# Altium schematic symbol library ptitteam_sch.SchLib: 24 symbols
Pins are listed as number, name and electrical type; pins without a type are passive.

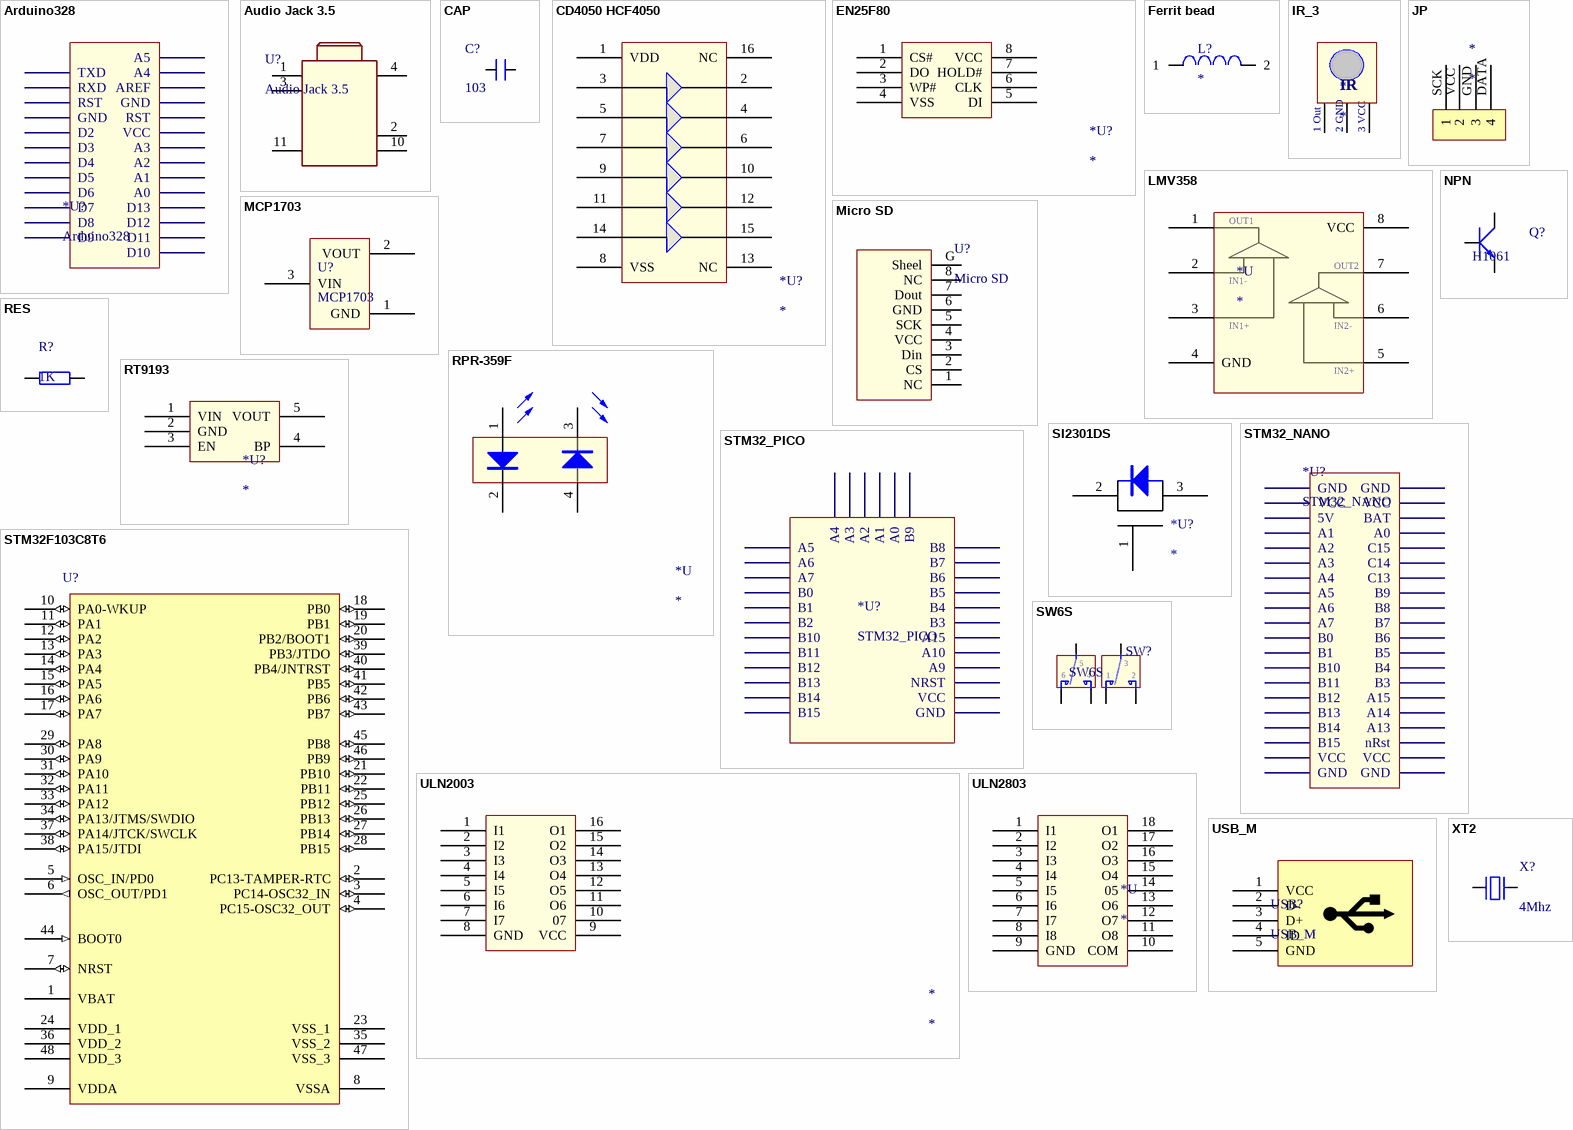
[diagram p0: symbols Arduino328 to XT2]

## Arduino328
designator *U?
footprint ARDUINO_14x2 (Arduino Module; Pitch 2.54 mm)
pins: 3 TXD, 4 RXD, 5 RST, 6 GND, 7 D2, 8 D3, 9 D4, 10 D5, 11 D6, 12 D7, 13 D8, 14 D9, 15 D10, 16 D11, 17 D12, 18 D13, 19 A0, 20 A1, 21 A2, 22 A3, 23 VCC, 24 RST, 25 GND, 26 AREF, 27 A4, 28 A5

## Audio Jack 3.5
designator U?
footprint Jack_Audio 3.5
pins: 1, 2, 3, 4, 10, 11

## CAP
designator C?, comment 103
Cap SMD; Value: 103
footprint CAP-0805 (Chip Capacitor; Body 2 x 1.2 mm (LxW typ))
footprint CAP-0603 (Chip Capacitor; Body 2 x 1.2 mm (LxW typ))
pins: 1, 2

## CD4050 HCF4050
designator *U?
footprint SOP-16 v2
footprint SOP-16
pins: 1 VDD, 2 G=A, 3 A, 4 H=B, 5 B, 6 I=C, 7 C, 8 VSS, 9 D, 10 J=D, 11 E, 12 K=E, 13 NC, 14 F, 15 L=F, 16 NC

## EN25F80
designator *U?
footprint EN25F80
footprint EN25F80 v2
footprint EN25F80
pins: 1 CS#, 2 DO, 3 WP#, 4 VSS, 5 DI, 6 CLK, 7 HOLD#, 8 VCC

## Ferrit bead
designator L?
pins: ?1 1, GND 2

## IR_3
designator *
footprint thIR
pins: GND, OUT, VCC
text: IR; 1 Out; 2 GND; 3 VCC

## JP
designator *
pins: DATA 4, GND 3, SCK 1, VCC 2

## LMV358
designator *U
footprint LMV358
pins: 1, 2, 3, 4 GND, 5, 6, 7, 8 VCC
text: OUT1; OUT2; IN1-; IN1+; IN2-; IN2+

## MCP1703
designator U?
pins: 1 GND, 2 VOUT, 3 VIN

## Micro SD
designator U?
footprint Socket Micro SD
pins: 1 NC, 2 CS, 3 Din, 4 VCC, 5 SCK, 6 GND, 7 Dout, 8 NC, G Sheel

## NPN
designator Q?, comment H1061
P 1W, BCE; Value: TIP41
pins: 1 B, 2 C, 3 E

## RES
designator R?, comment 1K
Resistor SMD; Value: 1K
footprint RES-0805 (Chip Resistor; Body 2 x 1.2 mm (LxW typ))
footprint RES-0603 (Chip Resistor; Body 2 x 1.2 mm (LxW typ))
pins: 1, 2

## RPR-359F
designator *U
footprint rpr359f - duplicate
pins: 1, 2, 3, 4

## RT9193
designator *U?
footprint SOT 23-5
footprint SOT 23-5 v2
pins: 1 VIN, 2 GND, 3 EN, 4 BP, 5 VOUT

## SI2301DS
designator *U?
footprint SOT-23 (SOT23, 3-Leads, Body 2.9x1.3mm, Pitch 0.95mm, Lead Span 2.5mm, IPC High Density)
footprint SOT-23 v2
pins: 1 G, 2 S, 3 D

## STM32_NANO
designator *U?
footprint STM32_NANO
pins: 1 GND, 2 VCC, 3 5V, 4 A1, 5 A2, 6 A3, 7 A4, 8 A5, 9 A6, 10 A7, 11 B0, 12 B1, 13 B10, 14 B11, 15 B12, 16 B13, 17 B14, 18 B15, 19 VCC, 20 GND, 21 GND, 22 VCC, 23 nRst, 24 A13, 25 A14, 26 A15, 27 B3, 28 B4, 29 B5, 30 B6, 31 B7, 32 B8, 33 B9, 34 C13, 35 C14, 36 C15, 37 A0, 38 BAT, 39 VCC, 40 GND

## STM32_PICO
designator *U?
footprint STM32_PICO
pins: A0, A1, A2, A3, A4, A5, A6, A7, A9, A10, A15, B0, B1, B2, B3, B4, B5, B6, B7, B8, B9, B10, B11, B12, B13, B14, B15, GND, NRST, VCC

## STM32F103C8T6
designator U?
STM32 ARM-based 32-bit MCU with 64 Kbytes Flash, 48-pin LQFP, Industrial Temperature; Published: 30-May-2008; DatasheetVersion: rev6, Mar-2008; PackageVersion: Mar-2008; PackageReference: LQFP48; Publisher: Altium Limited; PackageDescription: 48-Pin Low-Profile Quad Flat Pack, 7 x 7 mm Body, 0.5 mm Pitch (LQFP48); ComponentLink1Description: Manufacturer Link; ComponentLink1URL: www.st.com/stm32; ComponentLink2Description: Datasheet; ComponentLink2URL: http://www.st.com/stonline/products/literature/ds/13587.pdf
footprint LQFP48_N (Thin QFP, 48-Leads, Body 7x7mm, Pitch 0.5mm, IPC Medium Density)
footprint LQFP48_L (Thin QFP, 48-Leads, Body 7x7mm, Pitch 0.5mm, IPC High Density)
footprint LQFP48_M (Thin QFP, 48-Leads, Body 7x7mm, Pitch 0.5mm, IPC Low Density)
pins: 1 VBAT (power), 2 PC13-TAMPER-RTC (io), 3 PC14-OSC32_IN (io), 4 PC15-OSC32_OUT (io), 5 OSC_IN/PD0 (in), 6 OSC_OUT/PD1 (out), 7 NRST (io), 8 VSSA (power), 9 VDDA (power), 10 PA0-WKUP (io), 11 PA1 (io), 12 PA2 (io), 13 PA3 (io), 14 PA4 (io), 15 PA5 (io), 16 PA6 (io), 17 PA7 (io), 18 PB0 (io), 19 PB1 (io), 20 PB2/BOOT1 (io), 21 PB10 (io), 22 PB11 (io), 23 VSS_1 (power), 24 VDD_1 (power), 25 PB12 (io), 26 PB13 (io), 27 PB14 (io), 28 PB15 (io), 29 PA8 (io), 30 PA9 (io), 31 PA10 (io), 32 PA11 (io), 33 PA12 (io), 34 PA13/JTMS/SWDIO (io), 35 VSS_2 (power), 36 VDD_2 (power), 37 PA14/JTCK/SWCLK (io), 38 PA15/JTDI (io), 39 PB3/JTDO (io), 40 PB4/JNTRST (io), 41 PB5 (io), 42 PB6 (io), 43 PB7 (io), 44 BOOT0 (in), 45 PB8 (io), 46 PB9 (io), 47 VSS_3 (power), 48 VDD_3 (power)

## SW6S
designator SW?
SW-DTDP - 6 Pin; Value: SW6
footprint SW6 (SW DTDP - 6Pin 260x300x300 mil)
footprint BUTTON6_BIG
pins: 1, 2, 3, 4, 5, 6

## ULN2003
designator *
footprint ULN2003
pins: 1 I1, 2 I2, 3 I3, 4 I4, 5 I5, 6 I6, 7 I7, 8 GND, 9 VCC, 10 07, 11 O6, 12 O5, 13 O4, 14 O3, 15 O2, 16 O1

## ULN2803
designator *U
footprint ULN2803
pins: 1 I1, 2 I2, 3 I3, 4 I4, 5 I5, 6 I6, 7 I7, 8 I8, 9 GND, 10 COM, 11 O8, 12 O7, 13 O6, 14 05, 15 O4, 16 O3, 17 O2, 18 O1

## USB_M
designator USB?
footprint USB_B_MINI_SMD
pins: 1 VCC, 2 D-, 3 D+, 4 ID, 5 GND

## XT2
designator X?, comment 4Mhz
Crystal For all Crystal 2pin.; Value: 4Mhz
footprint XT2 (Footpin for Crystal 2 pin)
pins: 1, 2